# Altium integrated library NPN-2SC1815.IntLib: 1 symbol
Pins are listed as number, name and electrical type; pins without a type are passive.

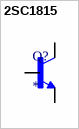
[diagram p0: symbol 2SC1815]

## 2SC1815
designator Q?
MP: 2SC1815; Availability: Unavailable; Value: *; Price: None; Package: None
footprint TO92127P521H534-3
pins: 1 E, 2 C, 3 B